# Altium footprint library 5747844-4.PcbLib: 1 footprints
Each footprint in its own frame and in the unit in brackets; x right, y up, seen from the top. Pads: shape width x height; smd on the part's side, far side on the other; paste and mask are expansions set on the pad; w line width, h text height; cw(c..) or ccw(c..) is an arc to the next point about the centre after c.
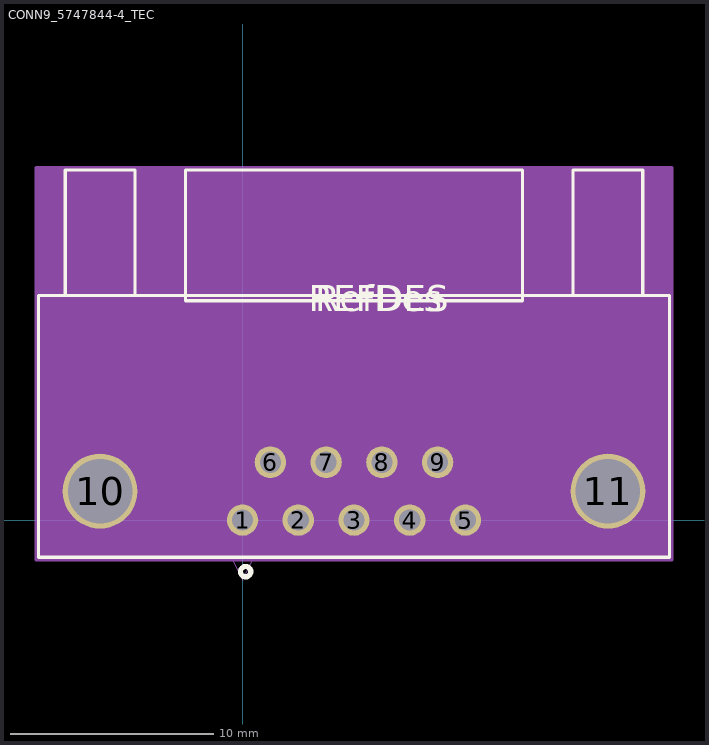
[diagram p0: the footprint, top view; thin cyan lines are the x and y axes]

## CONN9_5747844-4_TEC [mil]
pads (11):
  round 61 / inner round 60 / far side round 61 hole 41 paste-99999 mask+0: 1(0,0) 2(108,0) 3(216,0) 4(324,0) 5(432,0) 6(54,112) 7(162,112) 8(270,112) 9(378,112)
  round 145 / inner round 60 / far side round 145 hole 125 paste-99999 mask-72.5: 10(-276,56) 11(708,56)
Top Overlay:
  circle w10: c6,-100 r10
  lines w6: -343.5,435 -343.5,678 -208.5,678 -208.5,435 ; 640.5,435 640.5,678 775.5,678 775.5,435 ; -395.5,-72 827.5,-72 827.5,435 -395.5,435 -395.5,-72 ; -110.5,425 542.5,425 542.5,678 -110.5,678 -110.5,425
  text "RefDes" at 141,405 h50
  text "REFDES" at 128.5,405 h50
Mechanical 13:
  lines w1: -338.5,430 -338.5,673 -213.5,673 -213.5,430 ; -307.25,430 -307.25,673 ; -244.75,430 -244.75,673 ; -25,-67 0,-117 25,-67 ; 645.5,430 645.5,673 770.5,673 770.5,430 ; 676.75,430 676.75,673 ; 739.25,430 739.25,673 ; -390.5,-67 822.5,-67 822.5,430 -390.5,430 -390.5,-67 ; -105.5,430 537.5,430 537.5,673 -105.5,673 -105.5,430
  text "RefDes2" at 128.5,405 h50
Mechanical 15:
  region: 832.5,-77 832.5,683 -400.5,683 -400.5,-77
  lines w6: -400.5,-77 -400.5,683 832.5,683 832.5,-77 -400.5,-77
3D body "c-5747844-04-o-3d.stp": height 497, standoff -125.4, extent -395,-69.4 825,674.5